# Altium schematic symbol library SCH - OPAMP - ADA4807.SchLib: 1 symbol
Pins are listed as number, name and electrical type; pins without a type are passive.

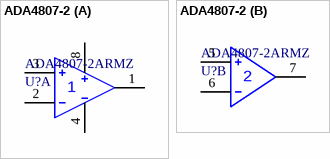
[diagram p0: symbol ADA4807-2]

## ADA4807-2
designator U?, comment ADA4807-2ARMZ
IC OPAMP VFB 2 CIRCUIT 8MSOP
part A pins: 1 VOUT1, 2 -IN1 (hiz), 3 +IN1 (hiz), 4 -VS (power), 8 +VS (power)
part B pins: 5 +IN2 (hiz), 6 -IN2 (hiz), 7 VOUT2